# Altium footprint library Small Outline with J Leads.PcbLib: 43 footprints (part 3 of 3)
Each footprint in its own frame and in the unit in brackets; x right, y up, seen from the top. Pads: shape width x height; smd on the part's side, far side on the other; paste and mask are expansions set on the pad; w line width, h text height; cw(c..) or ccw(c..) is an arc to the next point about the centre after c.
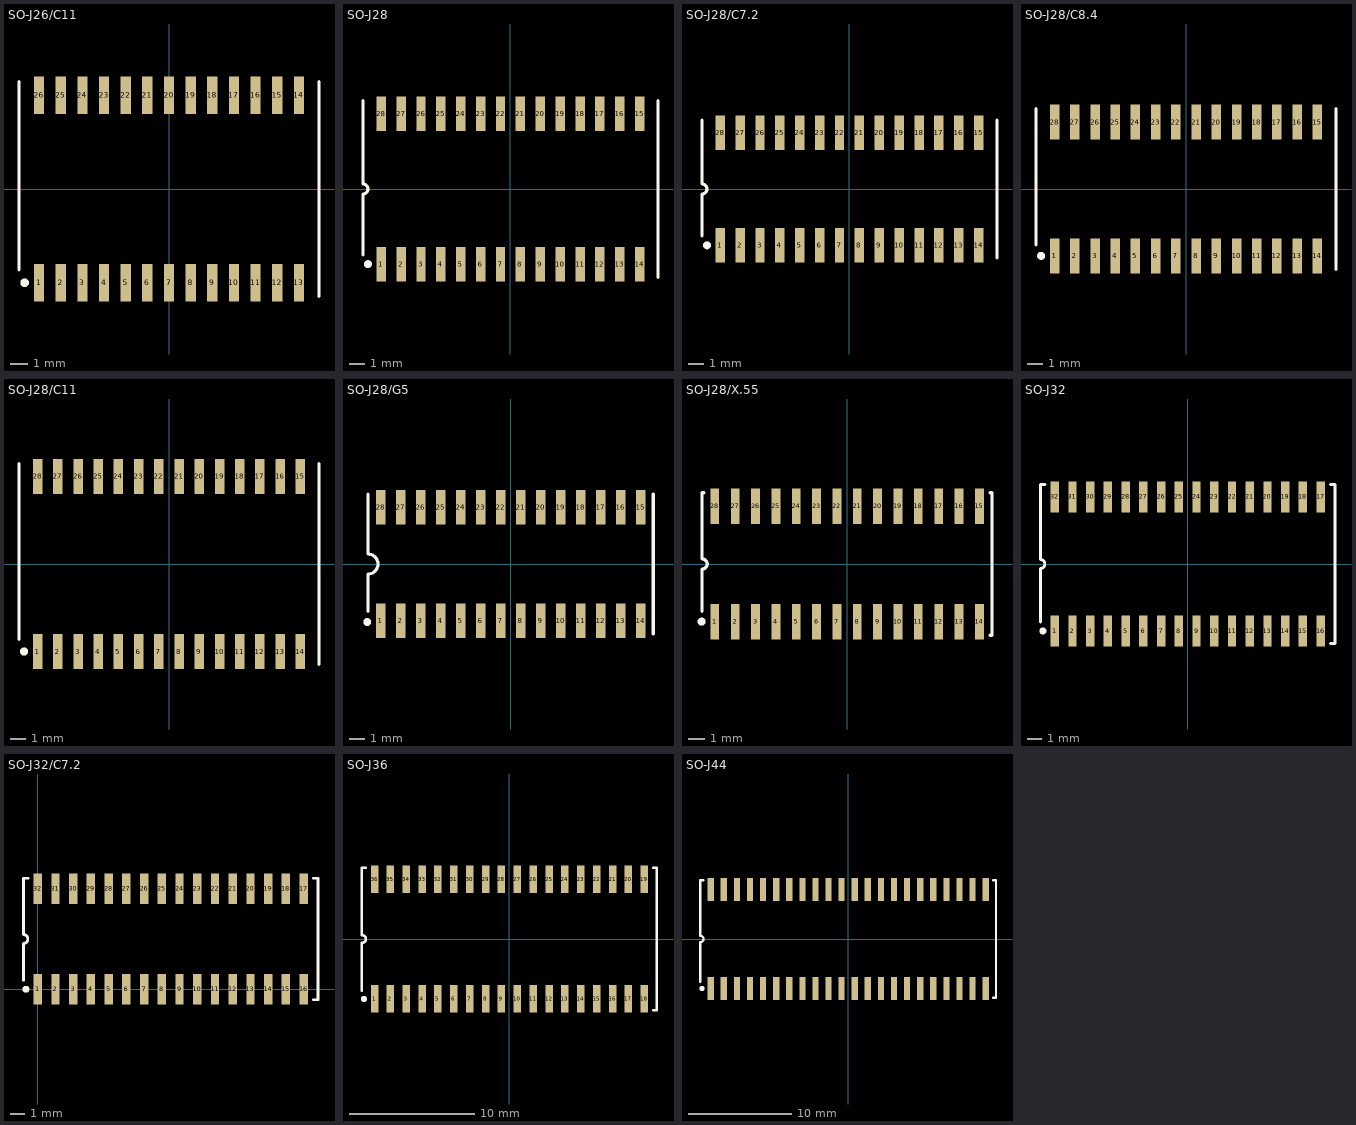
[diagram p2: the footprints below, top view; thin cyan lines are the x and y axes]

## SO-J26/C11 [mm] "SOJ; 26 Leads; Body Width 11.4 mm; Pitch 1.27 mm"
height 3.75
pads (26):
  rect 0.6x2.2 smd: 1(-7.62,-5.5) 2(-6.35,-5.5) 3(-5.08,-5.5) 4(-3.81,-5.5) 5(-2.54,-5.5) 6(-1.27,-5.5) 7(0,-5.5) 8(1.27,-5.5) 9(2.54,-5.5) 10(3.81,-5.5) 11(5.08,-5.5) 12(6.35,-5.5) 13(7.62,-5.5) 14(7.62,5.5) 15(6.35,5.5) 16(5.08,5.5) 17(3.81,5.5) 18(2.54,5.5) 19(1.27,5.5) 20(0,5.5) 21(-1.27,5.5) 22(-2.54,5.5) 23(-3.81,5.5) 24(-5.08,5.5) 25(-6.35,5.5) 26(-7.62,5.5)
Top Overlay:
  circle w0.25: c-8.47,-5.5 r0.125
  lines w0.2: -8.8,-4.75 -8.8,6.3 ; 8.8,-6.3 8.8,6.3

## SO-J28 [mm] "SOJ; 28 Leads; Body Width 10.16 mm; Pitch 1.27 mm"
height 3.69
pads (28):
  rect 0.6x2.2 smd: 1(-8.255,-4.8) 2(-6.985,-4.8) 3(-5.715,-4.8) 4(-4.445,-4.8) 5(-3.175,-4.8) 6(-1.905,-4.8) 7(-0.635,-4.8) 8(0.635,-4.8) 9(1.905,-4.8) 10(3.175,-4.8) 11(4.445,-4.8) 12(5.715,-4.8) 13(6.985,-4.8) 14(8.255,-4.8) 15(8.255,4.8) 16(6.985,4.8) 17(5.715,4.8) 18(4.445,4.8) 19(3.175,4.8) 20(1.905,4.8) 21(0.635,4.8) 22(-0.635,4.8) 23(-1.905,4.8) 24(-3.175,4.8) 25(-4.445,4.8) 26(-5.715,4.8) 27(-6.985,4.8) 28(-8.255,4.8)
Top Overlay:
  circle w0.25: c-9.105,-4.8 r0.125
  lines w0.2: -9.425,-4.2 -9.425,-0.318 ccw(c-9.425,0) -9.425,0.318 -9.425,5.65 ; 9.425,-5.65 9.425,5.65

## SO-J28/C7.2 [mm] "SOJ; 28 Leads; Body Width 7.62 mm; Pitch 1.27 mm"
height 3.75
pads (28):
  rect 0.6x2.2 smd: 1(-8.255,-3.6) 2(-6.985,-3.6) 3(-5.715,-3.6) 4(-4.445,-3.6) 5(-3.175,-3.6) 6(-1.905,-3.6) 7(-0.635,-3.6) 8(0.635,-3.6) 9(1.905,-3.6) 10(3.175,-3.6) 11(4.445,-3.6) 12(5.715,-3.6) 13(6.985,-3.6) 14(8.255,-3.6) 15(8.255,3.6) 16(6.985,3.6) 17(5.715,3.6) 18(4.445,3.6) 19(3.175,3.6) 20(1.905,3.6) 21(0.635,3.6) 22(-0.635,3.6) 23(-1.905,3.6) 24(-3.175,3.6) 25(-4.445,3.6) 26(-5.715,3.6) 27(-6.985,3.6) 28(-8.255,3.6)
Top Overlay:
  circle w0.25: c-9.105,-3.6 r0.125
  lines w0.2: -9.425,-3 -9.425,-0.318 ccw(c-9.425,0) -9.425,0.318 -9.425,4.4 ; 9.425,-4.4 9.425,4.4

## SO-J28/C8.4 [mm] "SOJ; 28 Leads; Body Width 8.9 mm; Pitch 1.27 mm"
height 3.75
pads (28):
  rect 0.6x2.2 smd: 1(-8.255,-4.2) 2(-6.985,-4.2) 3(-5.715,-4.2) 4(-4.445,-4.2) 5(-3.175,-4.2) 6(-1.905,-4.2) 7(-0.635,-4.2) 8(0.635,-4.2) 9(1.905,-4.2) 10(3.175,-4.2) 11(4.445,-4.2) 12(5.715,-4.2) 13(6.985,-4.2) 14(8.255,-4.2) 15(8.255,4.2) 16(6.985,4.2) 17(5.715,4.2) 18(4.445,4.2) 19(3.175,4.2) 20(1.905,4.2) 21(0.635,4.2) 22(-0.635,4.2) 23(-1.905,4.2) 24(-3.175,4.2) 25(-4.445,4.2) 26(-5.715,4.2) 27(-6.985,4.2) 28(-8.255,4.2)
Top Overlay:
  circle w0.25: c-9.105,-4.2 r0.125
  lines w0.2: -9.425,-3.5 -9.425,5.05 ; 9.425,-5.05 9.425,5.05

## SO-J28/C11 [mm] "SOJ; 28 Leads; Body Width 11.4 mm; Pitch 1.27 mm"
height 3.75
pads (28):
  rect 0.6x2.2 smd: 1(-8.255,-5.5) 2(-6.985,-5.5) 3(-5.715,-5.5) 4(-4.445,-5.5) 5(-3.175,-5.5) 6(-1.905,-5.5) 7(-0.635,-5.5) 8(0.635,-5.5) 9(1.905,-5.5) 10(3.175,-5.5) 11(4.445,-5.5) 12(5.715,-5.5) 13(6.985,-5.5) 14(8.255,-5.5) 15(8.255,5.5) 16(6.985,5.5) 17(5.715,5.5) 18(4.445,5.5) 19(3.175,5.5) 20(1.905,5.5) 21(0.635,5.5) 22(-0.635,5.5) 23(-1.905,5.5) 24(-3.175,5.5) 25(-4.445,5.5) 26(-5.715,5.5) 27(-6.985,5.5) 28(-8.255,5.5)
Top Overlay:
  circle w0.25: c-9.105,-5.5 r0.125
  lines w0.2: -9.425,-4.75 -9.425,6.3 ; 9.425,-6.3 9.425,6.3

## SO-J28/G5 [mm] "SOJ; 28 Leads; Body Width 7.5 mm; Pitch 1.27 mm"
height 3.56
pads (28):
  rect 0.6x2.2 smd: 1(-8.255,-3.6) 2(-6.985,-3.6) 3(-5.715,-3.6) 4(-4.445,-3.6) 5(-3.175,-3.6) 6(-1.905,-3.6) 7(-0.635,-3.6) 8(0.635,-3.6) 9(1.905,-3.6) 10(3.175,-3.6) 11(4.445,-3.6) 12(5.715,-3.6) 13(6.985,-3.6) 14(8.255,-3.6) 15(8.255,3.6) 16(6.985,3.6) 17(5.715,3.6) 18(4.445,3.6) 19(3.175,3.6) 20(1.905,3.6) 21(0.635,3.6) 22(-0.635,3.6) 23(-1.905,3.6) 24(-3.175,3.6) 25(-4.445,3.6) 26(-5.715,3.6) 27(-6.985,3.6) 28(-8.255,3.6)
Top Overlay:
  circle w0.25: c-9.105,-3.68 r0.125
  lines w0.2: -9.055,-3 -9.055,-0.639 ccw(c-9.055,-0.004) -9.055,0.631 -9.055,4.45 ; 9.055,-4.45 9.055,4.45

## SO-J28/X.55 [mm] "SOJ, Molded; 28 Leads; Body Width 7.5 mm"
height 3.56
pads (28):
  rect 0.55x2.2 smd: 1(-8.255,-3.6) 2(-6.985,-3.6) 3(-5.715,-3.6) 4(-4.445,-3.6) 5(-3.175,-3.6) 6(-1.905,-3.6) 7(-0.635,-3.6) 8(0.635,-3.6) 9(1.905,-3.6) 10(3.175,-3.6) 11(4.445,-3.6) 12(5.715,-3.6) 13(6.985,-3.6) 14(8.255,-3.6) 15(8.255,3.6) 16(6.985,3.6) 17(5.715,3.6) 18(4.445,3.6) 19(3.175,3.6) 20(1.905,3.6) 21(0.635,3.6) 22(-0.635,3.6) 23(-1.905,3.6) 24(-3.175,3.6) 25(-4.445,3.6) 26(-5.715,3.6) 27(-6.985,3.6) 28(-8.255,3.6)
Top Overlay:
  circle w0.25: c-9.08,-3.6 r0.125
  lines w0.2: -9.05,-2.95 -9.05,-0.318 ccw(c-9.05,0) -9.05,0.318 -9.05,4.45 -8.93,4.45 ; 8.93,-4.45 9.05,-4.45 9.05,4.45 8.93,4.45

## SO-J32 [mm] "SOJ; 32 Leads; Body Width 10.16 mm; Pitch 1.27 mm"
height 3.69
pads (32):
  rect 0.6x2.2 smd: 1(-9.525,-4.8) 2(-8.255,-4.8) 3(-6.985,-4.8) 4(-5.715,-4.8) 5(-4.445,-4.8) 6(-3.175,-4.8) 7(-1.905,-4.8) 8(-0.635,-4.8) 9(0.635,-4.8) 10(1.905,-4.8) 11(3.175,-4.8) 12(4.445,-4.8) 13(5.715,-4.8) 14(6.985,-4.8) 15(8.255,-4.8) 16(9.525,-4.8) 17(9.525,4.8) 18(8.255,4.8) 19(6.985,4.8) 20(5.715,4.8) 21(4.445,4.8) 22(3.175,4.8) 23(1.905,4.8) 24(0.635,4.8) 25(-0.635,4.8) 26(-1.905,4.8) 27(-3.175,4.8) 28(-4.445,4.8) 29(-5.715,4.8) 30(-6.985,4.8) 31(-8.255,4.8) 32(-9.525,4.8)
Top Overlay:
  circle w0.25: c-10.375,-4.8 r0.125
  lines w0.2: -10.55,-4.15 -10.55,-0.318 ccw(c-10.55,0) -10.55,0.318 -10.55,5.7 -10.225,5.7 ; 10.225,-5.7 10.55,-5.7 10.55,5.7 10.225,5.7

## SO-J32/C7.2 [mm] "SOJ; 32 Leads; Body Width 7.6 mm; Pitch 1.27 mm"
height 3.76
pads (32):
  rect 0.6x2.2 smd: 1(0,0) 2(1.27,0) 3(2.54,0) 4(3.81,0) 5(5.08,0) 6(6.35,0) 7(7.62,0) 8(8.89,0) 9(10.16,0) 10(11.43,0) 11(12.7,0) 12(13.97,0) 13(15.24,0) 14(16.51,0) 15(17.78,0) 16(19.05,0) 17(19.05,7.2) 18(17.78,7.2) 19(16.51,7.2) 20(15.24,7.2) 21(13.97,7.2) 22(12.7,7.2) 23(11.43,7.2) 24(10.16,7.2) 25(8.89,7.2) 26(7.62,7.2) 27(6.35,7.2) 28(5.08,7.2) 29(3.81,7.2) 30(2.54,7.2) 31(1.27,7.2) 32(0,7.2)
Top Overlay:
  circle w0.25: c-0.85,0 r0.125
  lines w0.2: -1.025,0.65 -1.025,3.283 ccw(c-1.025,3.6) -1.025,3.918 -1.025,7.95 -0.7,7.95 ; 19.75,-0.75 20.075,-0.75 20.075,7.95 19.75,7.95

## SO-J36 [mm] "SOJ; 36 Leads; Body Width 10.16 mm; Pitch 1.27 mm"
height 3.69
pads (36):
  rect 0.6x2.2 smd: 1(-10.795,-4.8) 2(-9.525,-4.8) 3(-8.255,-4.8) 4(-6.985,-4.8) 5(-5.715,-4.8) 6(-4.445,-4.8) 7(-3.175,-4.8) 8(-1.905,-4.8) 9(-0.635,-4.8) 10(0.635,-4.8) 11(1.905,-4.8) 12(3.175,-4.8) 13(4.445,-4.8) 14(5.715,-4.8) 15(6.985,-4.8) 16(8.255,-4.8) 17(9.525,-4.8) 18(10.795,-4.8) 19(10.795,4.8) 20(9.525,4.8) 21(8.255,4.8) 22(6.985,4.8) 23(5.715,4.8) 24(4.445,4.8) 25(3.175,4.8) 26(1.905,4.8) 27(0.635,4.8) 28(-0.635,4.8) 29(-1.905,4.8) 30(-3.175,4.8) 31(-4.445,4.8) 32(-5.715,4.8) 33(-6.985,4.8) 34(-8.255,4.8) 35(-9.525,4.8) 36(-10.795,4.8)
Top Overlay:
  circle w0.25: c-11.645,-4.8 r0.125
  lines w0.2: -11.8,-4.15 -11.8,-0.318 ccw(c-11.8,0) -11.8,0.318 -11.8,5.7 -11.495,5.7 ; 11.495,-5.7 11.8,-5.7 11.8,5.7 11.495,5.7

## SO-J44 [mm] "SOJ, Molded; 44 Leads; Body Width 10.16 mm"
height 3.76
pads (44):
  rect 0.6x2.2 smd: 1(-13.335,-4.8) 2(-12.065,-4.8) 3(-10.795,-4.8) 4(-9.525,-4.8) 5(-8.255,-4.8) 6(-6.985,-4.8) 7(-5.715,-4.8) 8(-4.445,-4.8) 9(-3.175,-4.8) 10(-1.905,-4.8) 11(-0.635,-4.8) 12(0.635,-4.8) 13(1.905,-4.8) 14(3.175,-4.8) 15(4.445,-4.8) 16(5.715,-4.8) 17(6.985,-4.8) 18(8.255,-4.8) 19(9.525,-4.8) 20(10.795,-4.8) 21(12.065,-4.8) 22(13.335,-4.8) 23(13.335,4.8) 24(12.065,4.8) 25(10.795,4.8) 26(9.525,4.8) 27(8.255,4.8) 28(6.985,4.8) 29(5.715,4.8) 30(4.445,4.8) 31(3.175,4.8) 32(1.905,4.8) 33(0.635,4.8) 34(-0.635,4.8) 35(-1.905,4.8) 36(-3.175,4.8) 37(-4.445,4.8) 38(-5.715,4.8) 39(-6.985,4.8) 40(-8.255,4.8) 41(-9.525,4.8) 42(-10.795,4.8) 43(-12.065,4.8) 44(-13.335,4.8)
Top Overlay:
  circle w0.25: c-14.185,-4.8 r0.125
  lines w0.2: -14.35,-4.15 -14.35,-0.317 ccw(c-14.35,0) -14.35,0.318 -14.35,5.7 -14.035,5.7 ; 14.035,-5.7 14.35,-5.7 14.35,5.7 14.035,5.7